# EAGLE library part ADM2483BRW (library ADM2483)
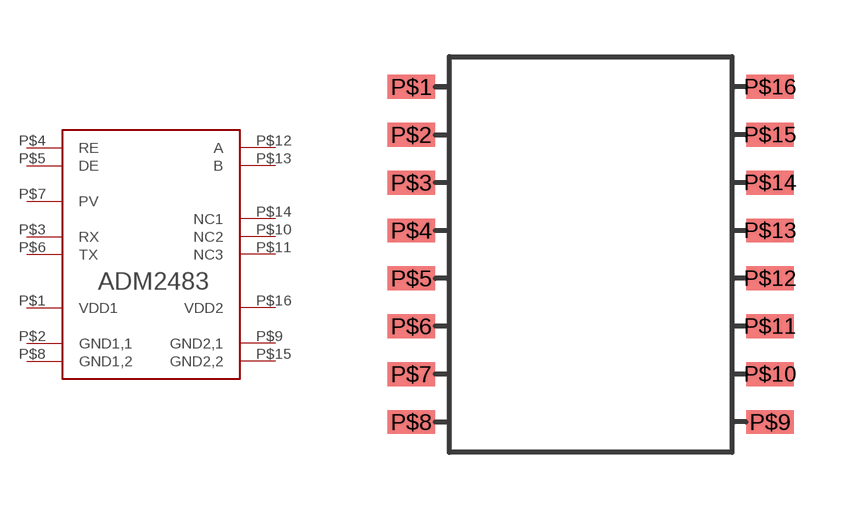
[diagram p0: symbol with the pads of ADM2483-SOIC; footprint ADM2483-SOIC]

Designator prefix -

## ADM2483BRW  [ADM2483-SOIC]
P$1  VDD1  pwr
P$2  GND1,1  pwr
P$3  RX  out
P$4  RE  in
P$5  DE  in
P$6  TX  in
P$7  PV
P$8  GND1,2  pwr
P$9  GND2,1  pwr
P$10  NC2  nc
P$11  NC3  nc
P$12  A
P$13  B
P$14  NC1  nc
P$15  GND2,2  pwr
P$16  VDD2  pwr

## Footprint ADM2483-SOIC (pad centres in mm)
ADM2483 in einem SOIC-Gehäuse
smd 1.27 x 0.635: P$1 -4.763,4.445; P$2 -4.763,3.175; P$3 -4.763,1.905; P$4 -4.763,0.635; P$5 -4.763,-0.635; P$6 -4.763,-1.905; P$7 -4.763,-3.175; P$8 -4.763,-4.445; P$9 4.763,-4.445; P$10 4.763,-3.175; P$11 4.763,-1.905; P$12 4.763,-0.635; P$13 4.763,0.635; P$14 4.763,1.905; P$15 4.763,3.175; P$16 4.763,4.445